# Altium integrated library Analog Devices Data Converters Analog-to-Digital Converters.IntLib: 2400 symbols (part 186 of 338)
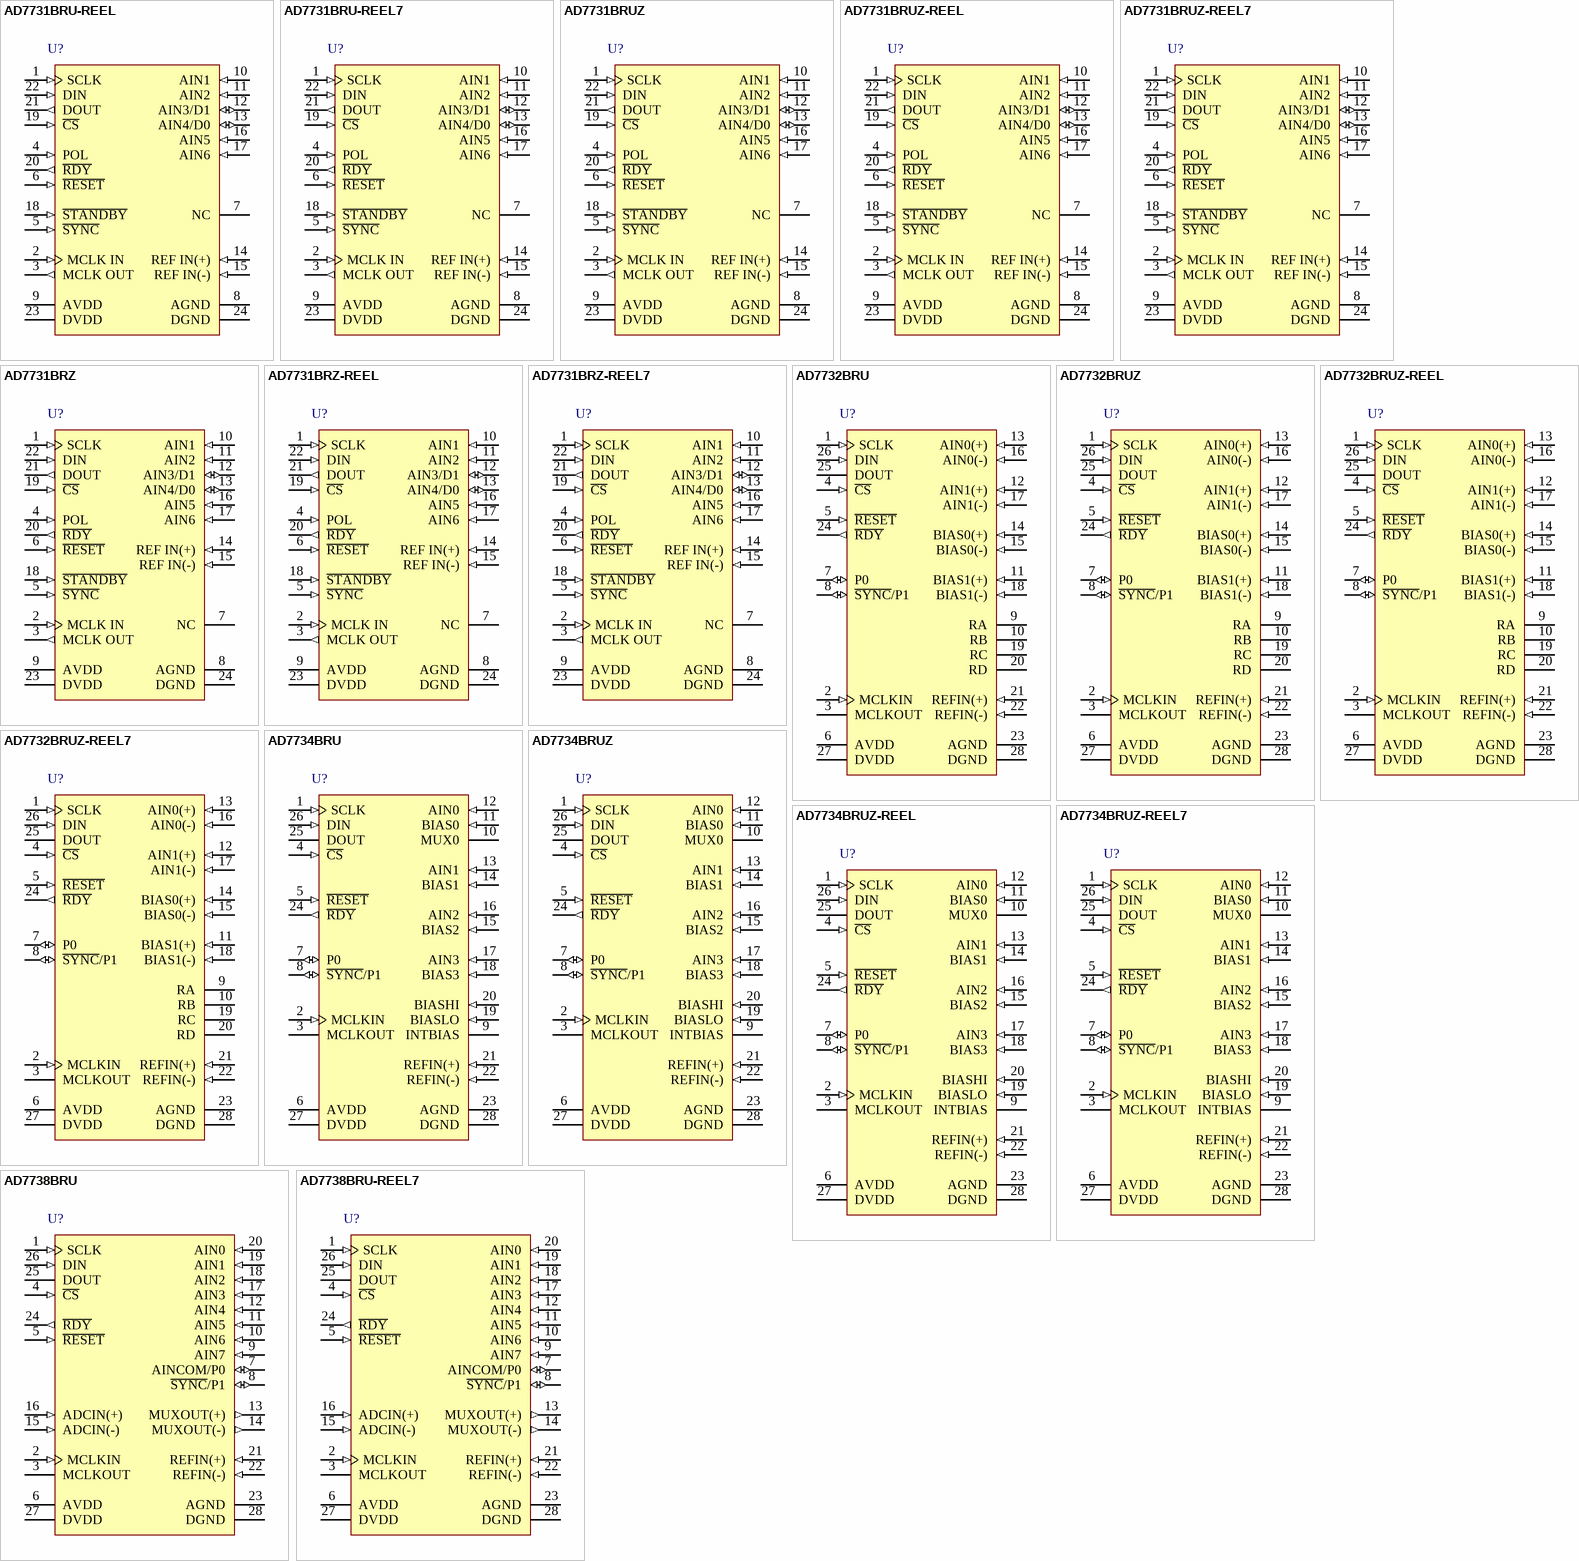
[diagram p358: symbols AD7731BRU-REEL to AD7738BRU-REEL7]

## AD7732BRUZ
designator U?
Dual 24-Bit Sigma-Delta Analog-to-Digital Converter with Serial, SPI Interface, +/-10 V, 15.4KSPS, -40 to +105 degC, RU-28, Pb-Free, Tube; Part Number: AD7732; Manufacturer: Analog Devices; Resolution (Bits): 24; Channels: 2; Throughput Rate (SPS): 15.4K; Interface: Ser, SPI; DatasheetVersion: Rev.A; PackageVersion: 2005; PackageReference: RU-28; PackageDescription: 28-Lead Thin Shrink Small Outline Package [TSSOP]; RoHS: Y; Packing: Tube; Mounting Technology: Surface Mount; Code_JEDEC: MO-153-AE; ComponentLink1Description: Manufacturer URL; ComponentLink1URL: http://www.analog.com/en/index.html; ComponentLink2Description: Datasheet; ComponentLink2URL: http://www.analog.com/static/imported-files/data_sheets/AD7732.pdf; ComponentLink3Description: Package Specification; ComponentLink3URL: http://www.analog.com/static/imported-files/packages/249854663RU_28.pdf; ComponentLink4Description: Product URL; ComponentLink4URL: http://www.analog.com/en/analog-to-digital-converters/ad-converters/ad7732/products/product.html
footprint RU-28_N (TSOP, 28-Leads, Body 9.7x4.4mm, Pitch 0.65mm, IPC Medium Density)
footprint RU-28_L (TSOP, 28-Leads, Body 9.7x4.4mm, Pitch 0.65mm, IPC High Density)
footprint RU-28_M (TSOP, 28-Leads, Body 9.7x4.4mm, Pitch 0.65mm, IPC Low Density)
pins: 1 SCLK (in) "Serial Clock. Schmitt triggered logic input. An external serial clock is applied to this input to transfer serial data to or from the AD7732.", 2 MCLKIN (in) "Master Clock Signal for the ADC. This can be provided in the form of a crystal/resonator or external clock. A crystal/resonator can be tied across the MCLKIN and MCLKOUT pins. Alternatively, the MCLKIN pin can be driven with (See Datasheet)", 3 MCLKOUT (hiz) "When the master clock for the device is a crystal/resonator, the crystal/resonator is connected between MCLKIN and MCLKOUT. If an external clock is applied to the MCLKIN, MCLKOUT provides an inverted clock signal or can be (See Datasheet)", 4 ~{CS} (in) "Chip Select. Active low Schmitt triggered logic input with an internal pull-up resistor. With this input hardwired low, the AD7732 can operate in its 3-wire interface mode using SCLK, DIN, and DOUT. C\S\ can be used to (See Datasheet)", 5 ~{RESET} (in) "Schmitt Triggered Logic Input. Active low input that resets the control logic, interface logic, digital filter, analog modulator, and all on-chip registers of the part to power-on status. Effectively, everything on the part (See Datasheet)", 6 AVDD (power) "Analog Positive Supply Voltage. 5 V to AGND nominal.", 7 P0 (io) "Digital Input/Output. The pin direction is determined by the P0 DIR bit; the digital value can be read/written as the P0 bit in the I/O port register. The digital voltage is referenced to analog supplies. When configured as (See Datasheet)", 8 ~{SYNC}/P1 (io) "S\Y\N\C\/Digital Input/Digital Output. The pin direction is determined by the P1 DIR bit; the digital value can be read/written as the P1 bit in the I/O port register. When the SYNC bit in the I/O port register is set to 1, (See Datasheet)", 9 RA "RA, in association with RB and BIAS0(+), can be used to level shift the positive analog input 0. In normal circuit configuration, this pin is left open circuit.", 10 RB "RB, in association with RA and BIAS0(+), can be used to level shift the positive analog input 0. In normal circuit configuration, this pin is left open circuit.", 11 BIAS1(+) (in) "This input is used to level shift the positive analog input 1. This signal is used to ensure that the differential signal seen by the internal buffer amplifier is within its common-mode range. BIAS pins will normally be (See Datasheet)", 12 AIN1(+) (in) "Positive Analog Input Channel 1.", 13 AIN0(+) (in) "Positive Analog Input Channel 0.", 14 BIAS0(+) (in) "Voltage Bias for Positive Analog Input 0. This pin has the same function as BIAS1(+).", 15 BIAS0(-) (in) "Voltage Bias for Negative Analog Input 0. This pin has the same function as BIAS1(+).", 16 AIN0(-) (in) "Negative Analog Input Channel 0.", 17 AIN1(-) (in) "Negative Analog Input Channel 1.", 18 BIAS1(-) (in) "Voltage Bias for Negative Analog Input 1. This pin has the same function as BIAS1(+).", 19 RC "RC, in association with RD and BIAS0(-), can be used to level shift the negative analog input 0. In normal circuit configuration, this pin is left open circuit.", 20 RD "RD, in association with RC and BIAS0(-), can be used to level shift the negative analog input 0. In normal circuit configuration, this pin is left open circuit.", 21 REFIN(+) (in) "Positive Terminal of the Differential Reference Input. REFIN(+) voltage potential can lie anywhere between AVDD and AGND. In normal circuit configuration, this pin should be connected to a 2.5 V reference voltage.", 22 REFIN(-) (in) "Negative Terminal of the Differential Reference Input. REFIN(-) voltage potential can lie anywhere between AVDD and AGND. In normal circuit configuration, this pin should be connected to a 0 V reference voltage.", 23 AGND (power) "Ground Reference Point for Analog Circuitry.", 24 ~{RDY} (out) "Logic Output. Used as a status output in both conversion mode and calibration mode. In conversion mode, a falling edge on this output indicates that either any channel or all channels have unread data available, according to (See Datasheet)", 25 DOUT (hiz) "Serial data output with serial data being read from the output shift register on the part. This output shift register can contain information from any AD7732 register, depending on the address bits of the communications (See Datasheet)", 26 DIN (in) "Serial data input (Schmitt triggered) with serial data being written to the input shift register on the part. Data from this input shift register is transferred to any AD7732 register, depending on the address bits of the (See Datasheet)", 27 DVDD (power) "Digital Supply Voltage, 3 V or 5 V Nominal.", 28 DGND (power) "Ground Reference Point for Digital Circuitry."